# EAGLE library part LTC1661 (library harrison)
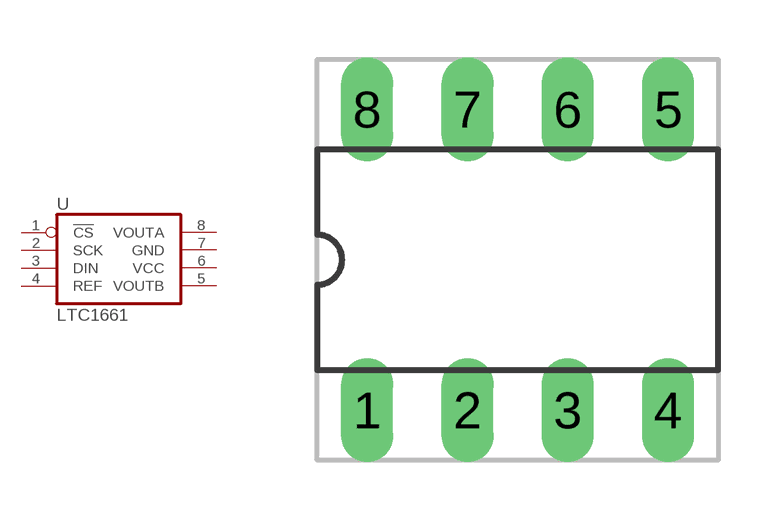
[diagram p27: symbol with the pads of DIL08; footprint DIL08]

Designator prefix U

## LTC1661  [DIL08]
1  !CS!  in
2  SCK  in
3  DIN  in
4  REF  in
5  VOUTB  out
6  VCC  pwr
7  GND  pwr
8  VOUTA  out

## Footprint DIL08 (pad centres in mm)
drill 0.813 long: 1 -3.81,-3.81; 2 -1.27,-3.81; 3 1.27,-3.81; 4 3.81,-3.81; 5 3.81,3.81; 6 1.27,3.81; 7 -1.27,3.81; 8 -3.81,3.81